# Altium footprint library BLE.PcbLib: 2 footprints
Each footprint in its own frame and in the unit in brackets; x right, y up, seen from the top. Pads: shape width x height; smd on the part's side, far side on the other; paste and mask are expansions set on the pad; w line width, h text height; cw(c..) or ccw(c..) is an arc to the next point about the centre after c.
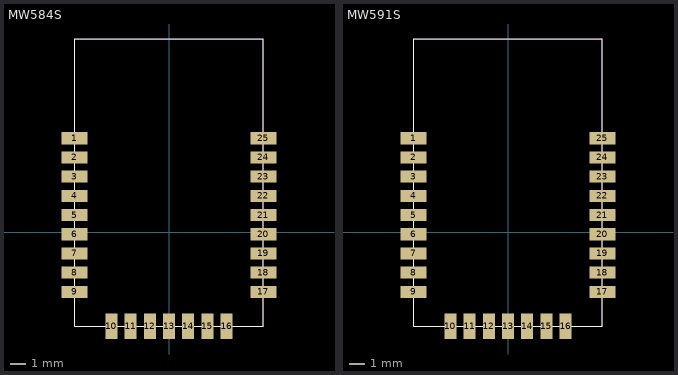
[diagram p0: the footprints below, top view; thin cyan lines are the x and y axes]

## MW584S [mm]
pads (25):
  rect 1.7x0.8 smd mask+0.05: 1(-6.25,6.215) 2(-6.25,4.945) 3(-6.25,3.675) 4(-6.25,2.405) 5(-6.25,1.135) 6(-6.25,-0.135) 7(-6.25,-1.405) 8(-6.25,-2.675) 9(-6.25,-3.945) 17(6.25,-3.945) 18(6.25,-2.675) 19(6.25,-1.405) 20(6.25,-0.135) 21(6.25,1.135) 22(6.25,2.405) 23(6.25,3.675) 24(6.25,4.945) 25(6.25,6.215)
  rect 0.8x1.7 smd mask+0.05: 10(-3.81,-6.215) 11(-2.54,-6.215) 12(-1.27,-6.215) 13(0,-6.215) 14(1.27,-6.215) 15(2.54,-6.215) 16(3.81,-6.215)
Top Overlay:
  lines w0.076: -6.25,-6.215 6.25,-6.215 6.25,12.785 -6.25,12.785 -6.25,-6.215
Mechanical 13:
  lines w0.076: -6.25,-6.215 -6.25,12.785 6.25,12.785 6.25,-6.215 -6.25,-6.215

## MW591S [mm]
pads (25):
  rect 1.7x0.8 smd mask+0.05: 1(-6.25,6.215) 2(-6.25,4.945) 3(-6.25,3.675) 4(-6.25,2.405) 5(-6.25,1.135) 6(-6.25,-0.135) 7(-6.25,-1.405) 8(-6.25,-2.675) 9(-6.25,-3.945) 17(6.25,-3.945) 18(6.25,-2.675) 19(6.25,-1.405) 20(6.25,-0.135) 21(6.25,1.135) 22(6.25,2.405) 23(6.25,3.675) 24(6.25,4.945) 25(6.25,6.215)
  rect 0.8x1.7 smd mask+0.05: 10(-3.81,-6.215) 11(-2.54,-6.215) 12(-1.27,-6.215) 13(0,-6.215) 14(1.27,-6.215) 15(2.54,-6.215) 16(3.81,-6.215)
Top Overlay:
  lines w0.076: -6.25,-6.215 6.25,-6.215 6.25,12.785 -6.25,12.785 -6.25,-6.215
Mechanical 13:
  lines w0.076: -6.25,-6.215 -6.25,12.785 6.25,12.785 6.25,-6.215 -6.25,-6.215